# Altium footprint library Pcb_Lib.PcbLib: 13 footprints
Each footprint in its own frame and in the unit in brackets; x right, y up, seen from the top. Pads: shape width x height; smd on the part's side, far side on the other; paste and mask are expansions set on the pad; w line width, h text height; cw(c..) or ccw(c..) is an arc to the next point about the centre after c.
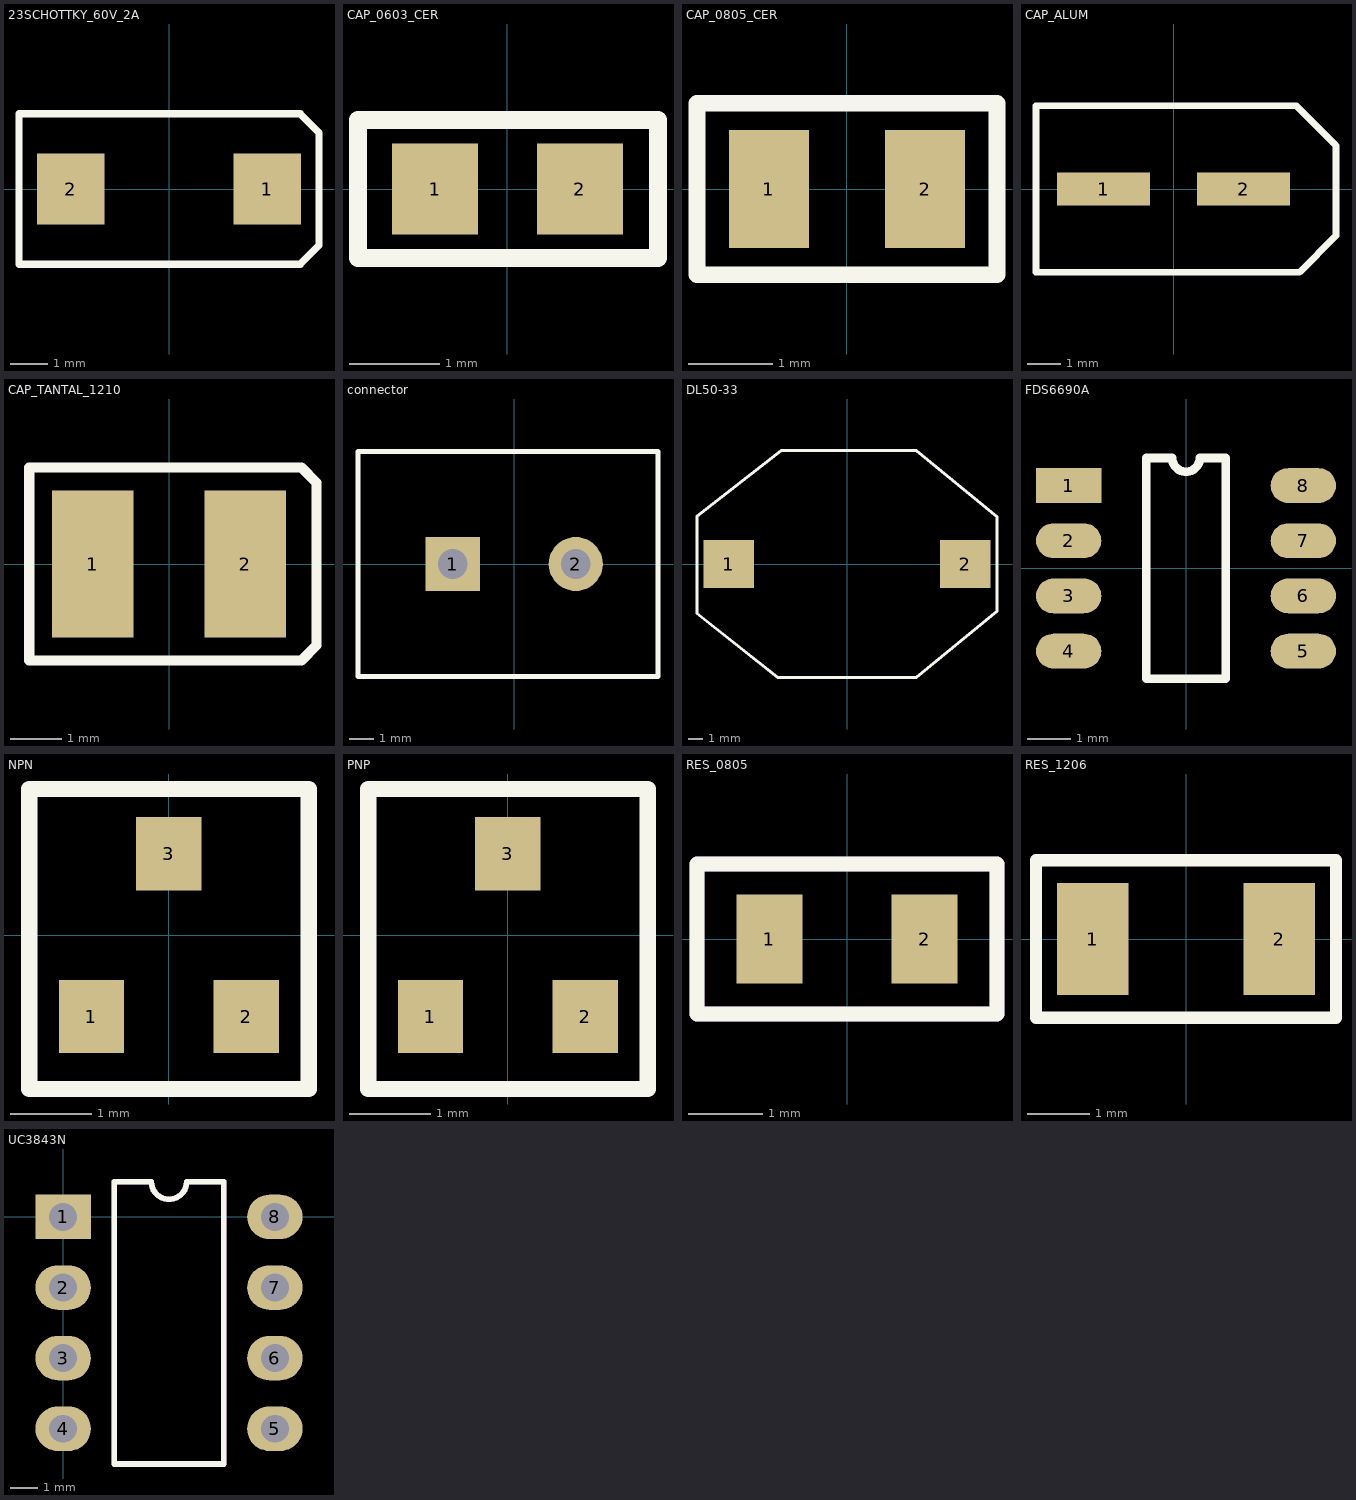
[diagram p0: the footprints below, top view; thin cyan lines are the x and y axes]

## 23SCHOTTKY_60V_2A [mm]
pads (2):
  rect 1.8x1.9 smd: 1(2.625,0) 2(-2.625,0)
Top Overlay:
  lines w0.2: -4,-2 -4,2 3.5,2 4,1.5 4,-1.5 3.5,-2 -4,-2
3D body "SMA_STM.step": height 2.64, standoff 0, extent -2.68,-1.448 2.68,1.448

## CAP_0603_CER [mm]
pads (2):
  rect 0.95x1 smd paste+0: 1(-0.8,0) 2(0.8,0)
Top Overlay:
  lines w0.2: -1.651,-0.762 1.663,-0.762 1.663,0.762 -0.432,0.762 -1.651,0.762 -1.651,0.404 -1.651,-0.762
3D body "CCS_CCSTD_0603_L1.75W0.95T0.87B0.35.step": height 0, standoff -0.95, extent -0.85,-0.425 0.9,0.445

## CAP_0805_CER [mm]
pads (2):
  rect 0.95x1.4 smd paste+0: 1(-0.925,0) 2(0.925,0)
Top Overlay:
  lines w0.2: -1.778,-1.016 1.778,-1.016 1.778,1.016 -1.778,1.016 -1.778,-1.016
3D body "G-21_MUR.step": height 1.45, standoff 0, extent -1.003,-0.622 1.003,0.622

## CAP_ALUM [mm]
pads (2):
  rect 2.8x1 smd: 1(-2.1,0) 2(2.1,0)
Top Overlay:
  lines w0.2: -4.125,-2.5 -4.125,2.5 3.675,2.5 4.875,1.3 4.875,-1.4 3.775,-2.5 -4.125,-2.5

## CAP_TANTAL_1210 [mm]
pads (2):
  rect 1.6x2.9 smd: 1(-1.5,0) 2(1.5,0)
Top Overlay:
  lines w0.2: -2.75,-1.9 -2.75,0.1 -2.75,1.9 2.6,1.9 2.9,1.6 2.9,-1.6 2.6,-1.9 -2.75,-1.9
3D body "TCJB106M035R0200.STEP": height 2.11, standoff 0, extent -1.75,-1.4 1.75,1.407

## connector [mm]
pads (2):
  rect 2.2x2.2 hole 1.2: 1(-2.5,0)
  round 2.2 hole 1.2: 2(2.5,0)
Top Overlay:
  lines w0.2: -6.35,-4.572 -6.35,4.572 5.842,4.572 5.842,-4.572 -6.35,-4.572
3D body "282836-2.STEP": height 10.01, standoff -3.49, extent -5.6,-4.1 5,4.1

## DL50-33 [mm]
pads (2):
  rect 3.5x3.3 smd: 1(-8.2,0) 2(8.2,0)
Top Overlay:
  lines w0.2: -2.075,7.874 2.434,7.874 ; -10.414,-3.438 -10.414,3.322 -4.572,7.874 4.826,7.874 10.414,3.278 10.414,-3.278 4.826,-7.874 -4.826,-7.874 -10.414,-3.438

## FDS6690A [mm]
pads (8):
  rect 1.505x0.802 smd: 1(-2.7,1.905)
  oval 1.505x0.802 smd: 2(-2.7,0.635) 3(-2.7,-0.635) 4(-2.7,-1.905) 5(2.7,-1.905) 6(2.7,-0.635) 7(2.7,0.635) 8(2.7,1.905)
Top Overlay:
  lines w0.2: -0.913,-2.54 0.913,-2.54 0.913,2.54 0.318,2.54 cw(c0,2.54) -0.318,2.54 -0.913,2.54 -0.913,-2.54
3D body "SOIC8_751EB_OSI.step": height 1.76, standoff 0, extent -3.099,-2.502 3.099,2.502

## NPN [mm]
pads (3):
  rect 0.8x0.9 smd: 1(-0.95,-1) 2(0.95,-1) 3(0,1)
Top Overlay:
  lines w0.2: -1.712,-1.889 1.717,-1.889 1.717,1.794 -1.712,1.794 -1.712,-1 -1.712,-1.889
3D body "SOT-23_3L_ONS.step": height 1.12, standoff 0, extent -1.524,-1.321 1.524,1.321

## PNP [mm]
pads (3):
  rect 0.8x0.9 smd: 1(-0.95,-1) 2(0.95,-1) 3(0,1)
Top Overlay:
  lines w0.2: -1.712,-1.889 1.717,-1.889 1.717,1.794 -1.712,1.794 -1.712,-1 -1.712,-1.889
3D body "SOT-23_ONS.step": height 1.12, standoff 0, extent -1.524,-1.321 1.524,1.321

## RES_0805 [mm]
pads (2):
  rect 0.9x1.2 smd paste+0 mask+0.102: 1(-1.05,0) 2(1.05,0)
Top Overlay:
  lines w0.2: -2.032,-1.016 -2.032,1.016 2.032,1.016 2.032,-1.016 -2.032,-1.016
Top Assembly:
  lines w0.2: -2.032,-1.016 -2.032,1.016 2.032,1.016 2.032,-1.016 -2.032,-1.016
3D body "step_temp.STEP": height 0.61, standoff 0.01, extent -1,-0.625 1,0.625

## RES_1206 [mm]
pads (2):
  rect 1.15x1.8 smd: 1(-1.5,0) 2(1.5,0)
Top Overlay:
  lines w0.2: -2.413,-1.27 2.413,-1.27 2.413,1.27 -2.413,1.27 -2.413,0 -2.413,-1.27
3D body "RC1206N_YAG.step": height 0.71, standoff 0, extent -1.6,-0.8 1.6,0.8

## UC3843N [mm]
pads (8):
  rect 2x1.6 hole 1: 1(0,0)
  oval 2x1.6 hole 1: 2(0,-2.54) 3(0,-5.08) 4(0,-7.62) 5(7.62,-7.62) 6(7.62,-5.08) 7(7.62,-2.54) 8(7.62,0)
Top Overlay:
  lines w0.2: 1.835,-8.89 5.785,-8.89 5.785,1.27 4.445,1.27 cw(c3.81,1.27) 3.175,1.27 1.835,1.27 1.835,-8.89
Top Assembly:
  lines w0.2: 1.835,-8.89 5.785,-8.89 5.785,1.27 4.445,1.27 cw(c3.81,1.27) 3.175,1.27 1.835,1.27 1.835,-8.89
  text ".Designator" at 3.96,1.753 h1
3D body "UC3843N.STEP": height 5.58, standoff -2.68, extent -0.285,-8.732 7.905,0.858